# Altium footprint library TO-220.PcbLib: 1 footprints
Each footprint in its own frame and in the unit in brackets; x right, y up, seen from the top. Pads: shape width x height; smd on the part's side, far side on the other; paste and mask are expansions set on the pad; w line width, h text height; cw(c..) or ccw(c..) is an arc to the next point about the centre after c.
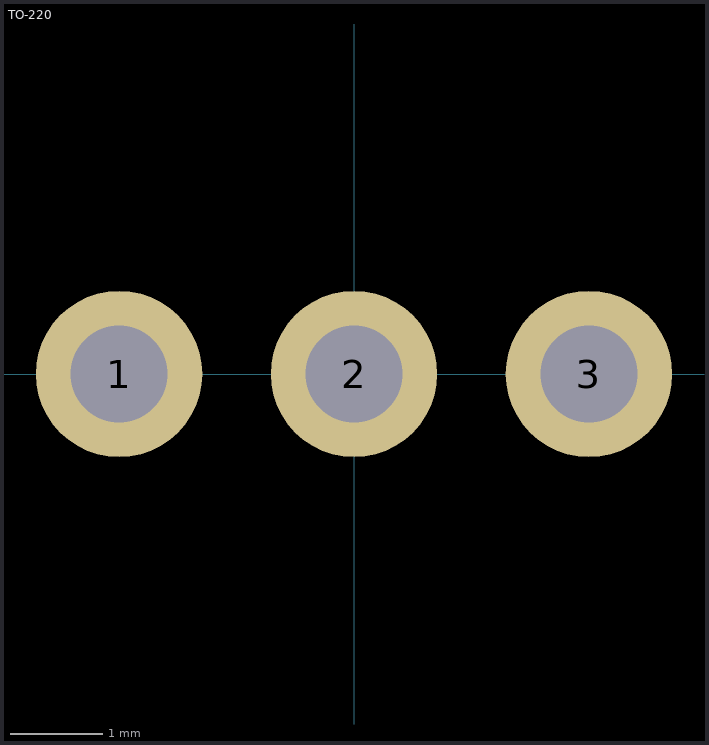
[diagram p0: the footprint, top view; thin cyan lines are the x and y axes]

## TO-220 [mm]
pads (3):
  round 1.8 hole 1.05: 1(-2.54,0) 2(0,0) 3(2.54,0)
3D body "TO-220-3_Horizontal_TabDown.step": height 4.44, standoff -6.33, extent -5.125,-0.262 5.125,19.475